# EAGLE library part 03962A (library lipo)
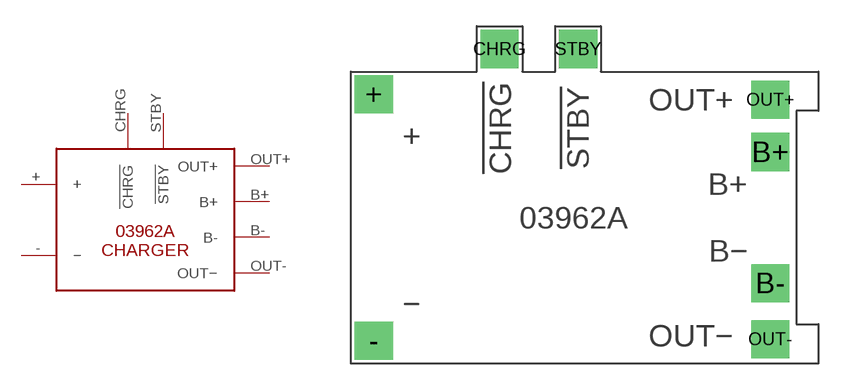
[diagram p3: symbol with the pads of 03962A; footprint 03962A]

Designator prefix -

## 03962A  [03962A]
+  +
-  −
B+  B+
B-  B-
CHRG  !CHRG!
OUT+  OUT+
OUT-  OUT−
STBY  !STBY!

## Footprint 03962A (pad centres in mm)
drill 0.8 pad 2.184 square: + -11.45,7.05; - -11.45,-7.05; B+ 11.25,3.75; B- 11.25,-3.75; CHRG -4.25,9.65; OUT+ 11.25,6.75; OUT- 11.25,-6.95; STBY 0.25,9.65